# EAGLE library part FUTURLEC_SMALL_7SEG_4DIGIT_CC (library Evan)
Futurlec 0.36" Common Cathode 4-Digit 7-Segment LED Display
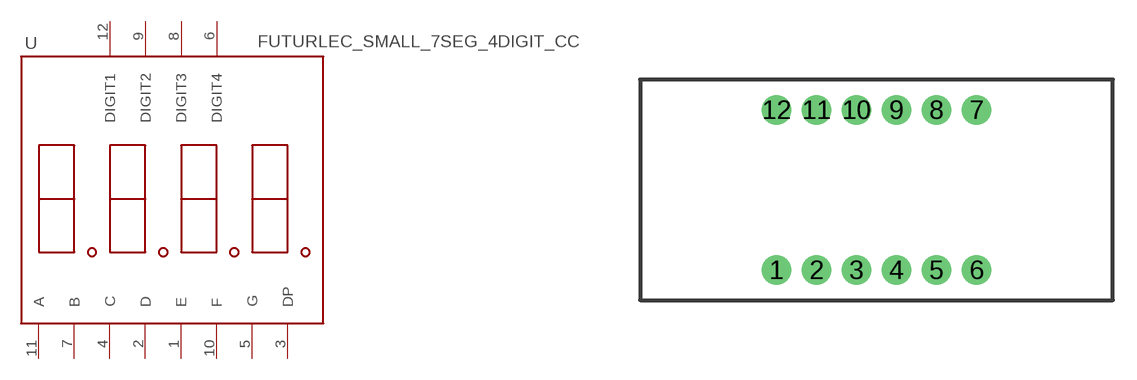
[diagram p2: symbol with the pads of FUTURLEC_SMALL_7SEG_4DIGIT_CC; footprint FUTURLEC_SMALL_7SEG_4DIGIT_CC]

Designator prefix -

## FUTURLEC_SMALL_7SEG_4DIGIT_CC0.36"  [FUTURLEC_SMALL_7SEG_4DIGIT_CC]
1  E
2  D
3  DP
4  C
5  G
6  DIGIT4
7  B
8  DIGIT3
9  DIGIT2
10  F
11  A
12  DIGIT1

## Footprint FUTURLEC_SMALL_7SEG_4DIGIT_CC (pad centres in mm)
drill 1.016 pad 1.88 round: 1 -6.35,-3.97; 2 -3.81,-3.97; 3 -1.27,-3.97; 4 1.27,-3.97; 5 3.81,-3.97; 6 6.35,-3.97; 7 6.35,6.19; 8 3.81,6.19; 9 1.27,6.19; 10 -1.27,6.19; 11 -3.81,6.19; 12 -6.35,6.19